# Altium footprint library CANDAQ.PcbLib: 26 footprints (part 2 of 2)
Each footprint in its own frame and in the unit in brackets; x right, y up, seen from the top. Pads: shape width x height; smd on the part's side, far side on the other; paste and mask are expansions set on the pad; w line width, h text height; cw(c..) or ccw(c..) is an arc to the next point about the centre after c.
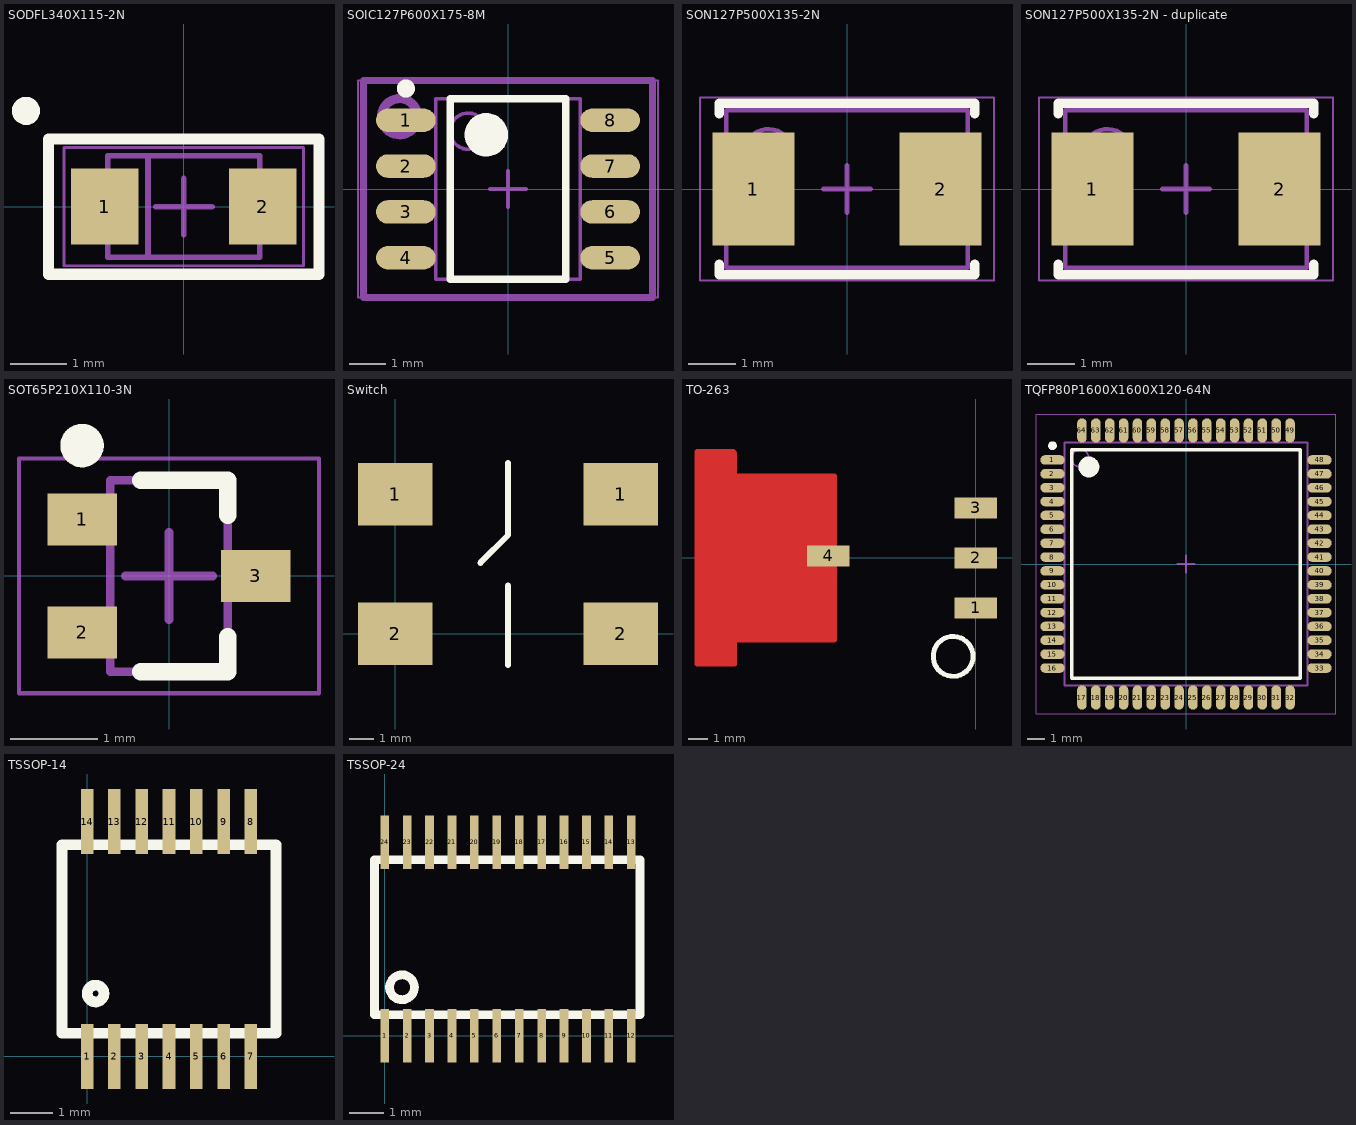
[diagram p1: the footprints below, top view; thin cyan lines are the x and y axes]

## SODFL340X115-2N [mm] "SODFL, 2-Leads, Body 1.75x3.40mm, IPC Medium Density"
height 1.15
pads (2):
  rect 1.2x1.35 smd: 1(-1.4,0) 2(1.4,0)
Top Overlay:
  circle w0.25: c-2.8,1.7 r0.125
  lines w0.2: -2.4,-1.2 -2.4,1.2 2.4,1.2 2.4,-1.2 -2.4,-1.2
Mechanical 13:
  lines w0.1: -0.635,-0.889 -0.635,0.9 ; -1.35,-0.9 -1.35,0.9 1.35,0.9 1.35,-0.9 -1.35,-0.9
Mechanical 15:
  lines w0.05: -2.125,-1.05 -2.125,1.05 2.125,1.05 2.125,-1.05 -2.125,-1.05
  lines w0.1: -0.5,0 0.5,0 ; 0,-0.5 0,0.5
3D body "SODFL340X115-2N.step": height 1.15, standoff 0, extent -1.7,-0.9 1.7,0.9

## SOIC127P600X175-8M [mm] "SOIC, 8-Leads, Body 4.90x3.90mm, Pitch 1.27mm, IPC Low Density"
height 1.75
pads (8):
  oval 1.65x0.65 smd: 1(-2.825,1.905) 2(-2.825,0.635) 3(-2.825,-0.635) 4(-2.825,-1.905) 5(2.825,-1.905) 6(2.825,-0.635) 7(2.825,0.635) 8(2.825,1.905)
Top Overlay:
  circle w0.6: c-0.6,1.5 r0.3
  circle w0.25: c-2.825,2.78 r0.125
  lines w0.2: -1.6,-2.5 1.6,-2.5 1.6,2.5 -1.6,2.5 -1.6,-2.5
Mechanical 13:
  circle w0.1: c-1.1,1.6 r0.5
  lines w0.1: -2,-2.5 2,-2.5 2,2.5 -2,2.5 -2,-2.5
Mechanical 15:
  lines w0.05: -4.15,-3 4.15,-3 4.15,3 -4.15,3 -4.15,-3
  lines w0.1: -0.5,0 0.5,0 ; 0,-0.5 0,0.5
Mechanical 29:
  circle w0.254: c-3,2 r0.5
  lines w0.2: -4,-3 -4,3 4,3 4,-3 -4,-3
  text ".Designator" at -2.3,-0.9 h1.52
3D body "SOIC127P600X175-8M.step": height 1.75, standoff 0, extent -3,-2.5 3,2.5

## SON127P500X135-2N [mm] "SON, 2-Leads, Body 3.20x5.00mm, Pitch 1.27mm, IPC Medium Density"
height 1.35
pads (2):
  rect 1.75x2.4 smd: 1(-1.995,0) 2(1.995,0)
Top Overlay:
  lines w0.2: -2.725,-1.6 -2.725,-1.825 2.725,-1.825 2.725,-1.6 ; -2.725,1.6 -2.725,1.825 2.725,1.825 2.725,1.6
Mechanical 13:
  circle w0.1: c-1.675,0.775 r0.5
  lines w0.1: -2.575,-1.675 2.575,-1.675 2.575,1.675 -2.575,1.675 -2.575,-1.675
Mechanical 15:
  lines w0.05: -3.13,-1.95 3.13,-1.95 3.13,1.95 -3.13,1.95 -3.13,-1.95
  lines w0.1: -0.5,0 0.5,0 ; 0,-0.5 0,0.5
3D body "SON127P500X135-2N.step": height 1.35, standoff 0.1, extent -2.575,-1.675 2.575,1.675

## SON127P500X135-2N - duplicate [mm] "SON, 2-Leads, Body 3.20x5.00mm, Pitch 1.27mm, IPC Medium Density"
height 1.35
pads (2):
  rect 1.75x2.4 smd: 1(-1.995,0) 2(1.995,0)
Top Overlay:
  lines w0.2: -2.725,-1.6 -2.725,-1.825 2.725,-1.825 2.725,-1.6 ; -2.725,1.6 -2.725,1.825 2.725,1.825 2.725,1.6
Mechanical 13:
  circle w0.1: c-1.675,0.775 r0.5
  lines w0.1: -2.575,-1.675 2.575,-1.675 2.575,1.675 -2.575,1.675 -2.575,-1.675
Mechanical 15:
  lines w0.05: -3.13,-1.95 3.13,-1.95 3.13,1.95 -3.13,1.95 -3.13,-1.95
  lines w0.1: -0.5,0 0.5,0 ; 0,-0.5 0,0.5
3D body "SON127P500X135-2N.step": height 1.35, standoff 0.1, extent -2.575,-1.675 2.575,1.675

## SOT65P210X110-3N [mm] "SOT23, 3-Leads, Body 2.00x2.10mm, Pitch 0.65mm, IPC Medium Density"
height 1.1
pads (3):
  rect 0.8x0.6 smd: 1(-1,0.65) 2(-1,-0.65) 3(1,0)
Top Overlay:
  circle w0.25: c-1,1.5 r0.125
  lines w0.2: -0.325,-1.1 0.675,-1.1 0.675,-0.7 ; -0.325,1.1 0.675,1.1 0.675,0.7
Mechanical 13:
  lines w0.1: -0.675,-1.1 -0.675,1.1 0.675,1.1 0.675,-1.1 -0.675,-1.1
Mechanical 15:
  lines w0.05: -1.725,-1.35 -1.725,1.35 1.725,1.35 1.725,-1.35 -1.725,-1.35
  lines w0.1: -0.5,0 0.5,0 ; 0,-0.5 0,0.5
3D body "SOT65P210X110-3N.step": height 1.1, standoff 0, extent -1.15,-1.1 1.15,1.1

## Switch [mm]
pads (4):
  rect 3.1x2.6 smd: 1(0,5.8) 1(9.4,5.8) 2(0,0) 2(9.4,0)
Top Overlay:
  lines w0.254: 3.55,2.95 4.7,4.1 4.7,7.1 ; 4.7,-1.3 4.7,2

## TO-263 [mm]
pads (4):
  rect 2.16x1.07 smd: 1(0,-2.54) 2(0,0) 3(0,2.54)
  rect 2.16x1.07 smd mask+0: 4(-7.5,0.1)
Top Layer:
  region: -14.17,-5.4 -14.17,5.4 -12.32,5.4 -12.26,5.34 -12.26,4.165 -7.18,4.165 -7.18,-4.165 -12.26,-4.165 -12.26,-5.39 -12.27,-5.4
  lines w0.254: -14.17,-5.4 -12.27,-5.4 -12.26,-5.39 -12.26,-4.165 -7.18,-4.165 -7.18,4.165 -12.26,4.165 -12.26,5.34 -12.32,5.4 -14.17,5.4 -14.17,-5.4
Top Overlay:
  circle w0.254: c-1.15,-5 r1.014

## TQFP80P1600X1600X120-64N [mm] "TQFP, 64-Leads, Body 14.00x14.00mm, Pitch 0.80mm, IPC Medium Density"
height 1.2
pads (64):
  oval 1.4x0.55 smd: 1(-7.7,6) 2(-7.7,5.2) 3(-7.7,4.4) 4(-7.7,3.6) 5(-7.7,2.8) 6(-7.7,2) 7(-7.7,1.2) 8(-7.7,0.4) 9(-7.7,-0.4) 10(-7.7,-1.2) 11(-7.7,-2) 12(-7.7,-2.8) 13(-7.7,-3.6) 14(-7.7,-4.4) 15(-7.7,-5.2) 16(-7.7,-6) 33(7.7,-6) 34(7.7,-5.2) 35(7.7,-4.4) 36(7.7,-3.6) 37(7.7,-2.8) 38(7.7,-2) 39(7.7,-1.2) 40(7.7,-0.4) 41(7.7,0.4) 42(7.7,1.2) 43(7.7,2) 44(7.7,2.8) 45(7.7,3.6) 46(7.7,4.4) 47(7.7,5.2) 48(7.7,6)
  oval 0.55x1.4 smd: 17(-6,-7.7) 18(-5.2,-7.7) 19(-4.4,-7.7) 20(-3.6,-7.7) 21(-2.8,-7.7) 22(-2,-7.7) 23(-1.2,-7.7) 24(-0.4,-7.7) 25(0.4,-7.7) 26(1.2,-7.7) 27(2,-7.7) 28(2.8,-7.7) 29(3.6,-7.7) 30(4.4,-7.7) 31(5.2,-7.7) 32(6,-7.7) 49(6,7.7) 50(5.2,7.7) 51(4.4,7.7) 52(3.6,7.7) 53(2.8,7.7) 54(2,7.7) 55(1.2,7.7) 56(0.4,7.7) 57(-0.4,7.7) 58(-1.2,7.7) 59(-2,7.7) 60(-2.8,7.7) 61(-3.6,7.7) 62(-4.4,7.7) 63(-5.2,7.7) 64(-6,7.7)
Top Overlay:
  circle w0.25: c-7.7,6.825 r0.125
  circle w0.6: c-5.6,5.6 r0.3
  lines w0.2: -6.6,-6.6 -6.6,6.6 6.6,6.6 6.6,-6.6 -6.6,-6.6
Mechanical 13:
  circle w0.1: c-6.1,6.1 r0.5
  lines w0.1: -7,-7 -7,7 7,7 7,-7 -7,-7
Mechanical 15:
  lines w0.05: -8.65,-8.65 -8.65,8.65 8.65,8.65 8.65,-8.65 -8.65,-8.65
  lines w0.1: -0.5,0 0.5,0 ; 0,-0.5 0,0.5
3D body "TQFP80P1600X1600X120-64N.step": height 1.2, standoff 0, extent -8,-8 8,8

## TSSOP-14 [mm]
pads (14):
  rect 0.3x1.55 smd: 1(0,0) 2(0.65,0) 3(1.3,0) 4(1.95,0) 5(2.6,0) 6(3.25,0) 7(3.9,0) 8(3.9,5.6) 9(3.25,5.6) 10(2.6,5.6) 11(1.95,5.6) 12(1.3,5.6) 13(0.65,5.6) 14(0,5.6)
Top Overlay:
  circle w0.254: c0.2,1.5 r0.2
  lines w0.254: -0.6,0.55 4.5,0.55 4.5,5.05 -0.6,5.05 -0.6,0.55

## TSSOP-24 [mm]
pads (24):
  rect 0.25x1.55 smd: 1(0,0) 2(0.65,0) 3(1.3,0) 4(1.95,0) 5(2.6,0) 6(3.25,0) 7(3.9,0) 8(4.55,0) 9(5.2,0) 10(5.85,0) 11(6.5,0) 12(7.15,0) 13(7.15,5.6) 14(6.5,5.6) 15(5.85,5.6) 16(5.2,5.6) 17(4.55,5.6) 18(3.9,5.6) 19(3.25,5.6) 20(2.6,5.6) 21(1.95,5.6) 22(1.3,5.6) 23(0.65,5.6) 24(0,5.6)
Top Overlay:
  circle w0.254: c0.5,1.4 r0.361
  lines w0.254: -0.3,0.6 -0.3,5.1 7.4,5.1 7.4,0.6 -0.3,0.6